# Altium footprint library QFN45P300X300X100-21N-D.PcbLib: 1 footprints
Each footprint in its own frame and in the unit in brackets; x right, y up, seen from the top. Pads: shape width x height; smd on the part's side, far side on the other; paste and mask are expansions set on the pad; w line width, h text height; cw(c..) or ccw(c..) is an arc to the next point about the centre after c.
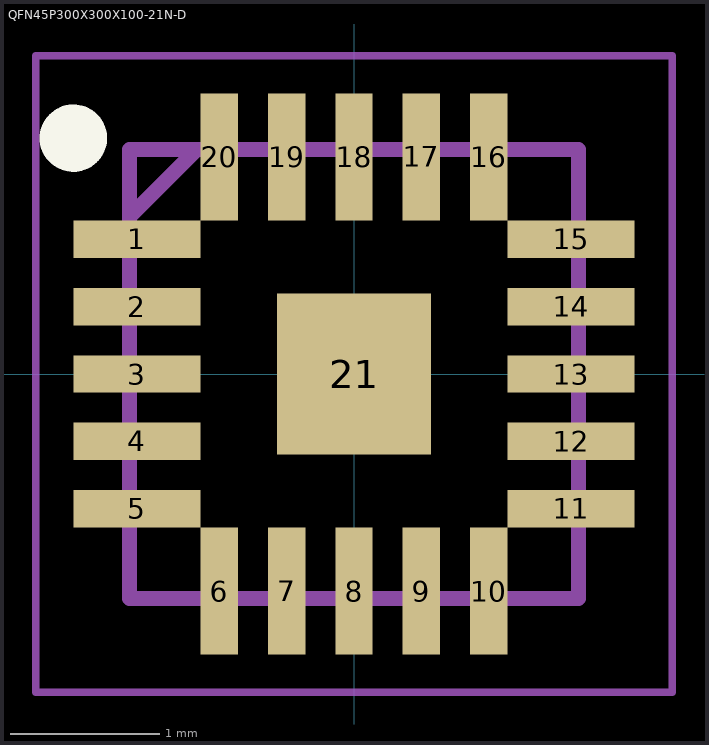
[diagram p0: the footprint, top view; thin cyan lines are the x and y axes]

## QFN45P300X300X100-21N-D [mm]
pads (21):
  rect 0.85x0.25 smd: 1(-1.45,0.9) 2(-1.45,0.45) 3(-1.45,0) 4(-1.45,-0.45) 5(-1.45,-0.9) 11(1.45,-0.9) 12(1.45,-0.45) 13(1.45,0) 14(1.45,0.45) 15(1.45,0.9)
  rect 0.25x0.85 smd: 6(-0.9,-1.45) 7(-0.45,-1.45) 8(0,-1.45) 9(0.45,-1.45) 10(0.9,-1.45) 16(0.9,1.45) 17(0.45,1.45) 18(0,1.45) 19(-0.45,1.45) 20(-0.9,1.45)
  rect 1.026x1.075 smd: 21(0,0)
Top Overlay:
  circle w0.225: c-1.874,1.575 r0.112
Mechanical 15:
  lines w0.1: -1.5,1.05 -1.05,1.5 ; -1.5,-1.5 1.5,-1.5 1.5,1.5 -1.5,1.5 -1.5,-1.5
Mechanical 20:
  lines w0.05: -2.125,-2.125 2.125,-2.125 2.125,2.125 -2.125,2.125 -2.125,-2.125